# Altium footprint library EPC.PcbLib: 1 footprints
Each footprint in its own frame and in the unit in brackets; x right, y up, seen from the top. Pads: shape width x height; smd on the part's side, far side on the other; paste and mask are expansions set on the pad; w line width, h text height; cw(c..) or ccw(c..) is an arc to the next point about the centre after c.
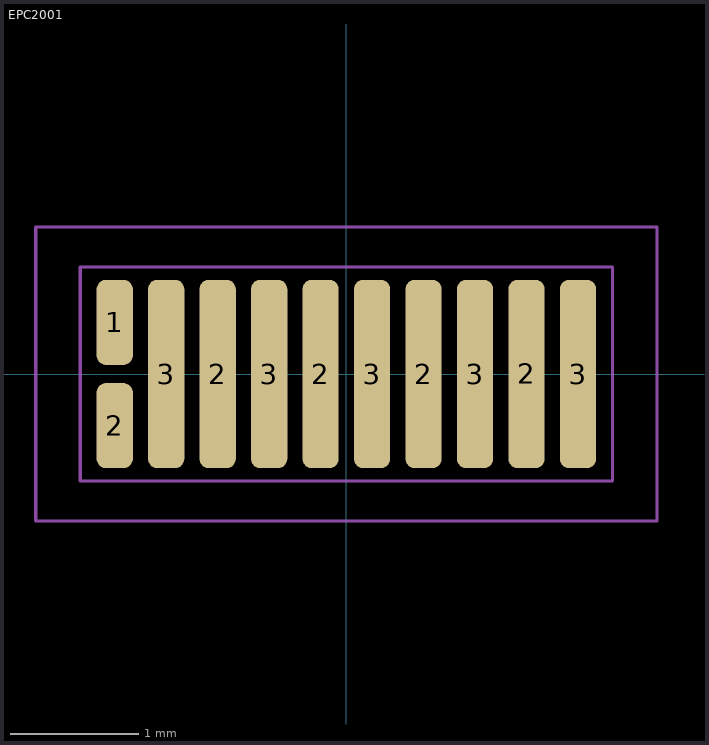
[diagram p0: the footprint, top view; thin cyan lines are the x and y axes]

## EPC2001 [mm] "SMD, 11-Leads, Body 4.105x1.632mm, Pitch 0.4mm"
height 0.815
pads (11):
  rrect50% 0.282x0.66 smd paste-0.051 mask-0.051: 1(-1.8,0.401) 2(-1.8,-0.401)
  rrect50% 0.282x1.464 smd paste-0.051 mask-0.051: 2(-1,0) 2(-0.2,0) 2(0.6,0) 2(1.4,0) 3(-1.4,0) 3(-0.6,0) 3(0.2,0) 3(1,0) 3(1.8,0)
Top Solder:
  drawing of 4 lines, arcs and shapes, not listed
Top Designator:
  text ".Designator" at -3.242,-0.317 h0.89
Top Courtyard:
  lines w0.025: -2.413,-1.143 -2.413,1.143 2.413,1.143 2.413,-1.143 -2.413,-1.143
Top Component Outline:
  lines w0.025: -2.067,-0.831 2.067,-0.831 2.067,0.831 -2.067,0.831 -2.067,-0.831
3D body: height 0.82, standoff 0.8, extent -1.939,0.25 -1.535,0.654
3D body: height 0.81, standoff 0.08, extent -2.067,-0.831 2.066,0.831